# EAGLE library part MSP430FG4618 (library texas)
MIXED SIGNAL MICROCONTROLLER Auto generated by make-symbol-device-package-bsdl.ulp Rev. 19 Source: http://focus.ti.com/docs/prod/folders/print/msp430fg4618.html
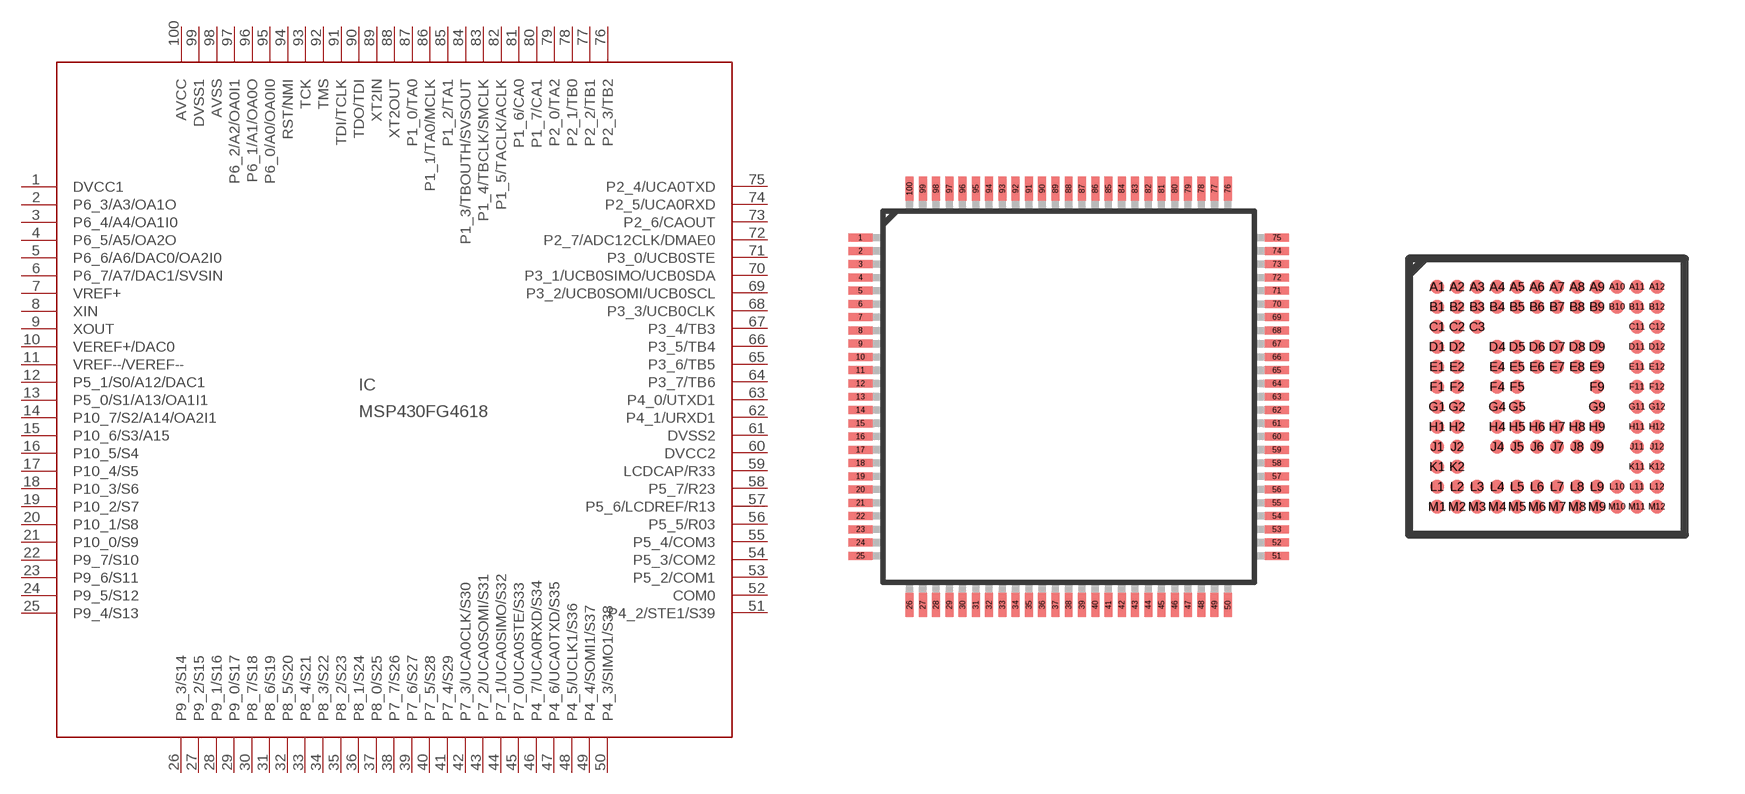
[diagram p38: symbol with the pads of TQFP100; footprints TQFP100, S-PBGA-N113]

Designator prefix IC

## MSP430FG4618PZ (MPN: MSP430FG4618IPZ; OC_FARNELL: 1470488; OC_NEWARK: 22M1151)  [TQFP100]
1  DVCC1  pwr
2  P6_3/A3/OA1O
3  P6_4/A4/OA1I0
4  P6_5/A5/OA2O
5  P6_6/A6/DAC0/OA2I0
6  P6_7/A7/DAC1/SVSIN
7  VREF+  out
8  XIN  in
9  XOUT  out
10  VEREF+/DAC0
11  VREF--/VEREF--  in
12  P5_1/S0/A12/DAC1
13  P5_0/S1/A13/OA1I1
14  P10_7/S2/A14/OA2I1
15  P10_6/S3/A15
16  P10_5/S4
17  P10_4/S5
18  P10_3/S6
19  P10_2/S7
20  P10_1/S8
21  P10_0/S9
22  P9_7/S10
23  P9_6/S11
24  P9_5/S12
25  P9_4/S13
26  P9_3/S14
27  P9_2/S15
28  P9_1/S16
29  P9_0/S17
30  P8_7/S18
31  P8_6/S19
32  P8_5/S20
33  P8_4/S21
34  P8_3/S22
35  P8_2/S23
36  P8_1/S24
37  P8_0/S25
38  P7_7/S26
39  P7_6/S27
40  P7_5/S28
41  P7_4/S29
42  P7_3/UCA0CLK/S30
43  P7_2/UCA0SOMI/S31
44  P7_1/UCA0SIMO/S32
45  P7_0/UCA0STE/S33
46  P4_7/UCA0RXD/S34
47  P4_6/UCA0TXD/S35
48  P4_5/UCLK1/S36
49  P4_4/SOMI1/S37
50  P4_3/SIMO1/S38
51  P4_2/STE1/S39
52  COM0  out
53  P5_2/COM1
54  P5_3/COM2
55  P5_4/COM3
56  P5_5/R03
57  P5_6/LCDREF/R13
58  P5_7/R23
59  LCDCAP/R33  in
60  DVCC2  pwr
61  DVSS2  pwr
62  P4_1/URXD1
63  P4_0/UTXD1
64  P3_7/TB6
65  P3_6/TB5
66  P3_5/TB4
67  P3_4/TB3
68  P3_3/UCB0CLK
69  P3_2/UCB0SOMI/UCB0SCL
70  P3_1/UCB0SIMO/UCB0SDA
71  P3_0/UCB0STE
72  P2_7/ADC12CLK/DMAE0
73  P2_6/CAOUT
74  P2_5/UCA0RXD
75  P2_4/UCA0TXD
76  P2_3/TB2
77  P2_2/TB1
78  P2_1/TB0
79  P2_0/TA2
80  P1_7/CA1
81  P1_6/CA0
82  P1_5/TACLK/ACLK
83  P1_4/TBCLK/SMCLK
84  P1_3/TBOUTH/SVSOUT
85  P1_2/TA1
86  P1_1/TA0/MCLK
87  P1_0/TA0
88  XT2OUT  out
89  XT2IN  in
90  TDO/TDI
91  TDI/TCLK  in
92  TMS  in
93  TCK  in
94  RST/NMI  in
95  P6_0/A0/OA0I0
96  P6_1/A1/OA0O
97  P6_2/A2/OA0I1
98  AVSS  pwr
99  DVSS1  pwr
100  AVCC  pwr

## MSP430FG4618ZQW (MPN: MSP430FG4618IZQW; OC_FARNELL: unknown; OC_NEWARK: 61M7852)  [S-PBGA-N113]
A1  DVCC1  pwr
A2  AVCC  pwr
A3  AVSS  pwr
A4  P6_0/A0/OA0I0
A5  TCK  in
A6  TDO/TDI
A7  P1_0/TA0
A8  P1_3/TBOUTH/SVSOUT
A9  P1_6/CA0
A10  P2_0/TA2
A11  P2_3/TB2
B1  P6_3/A3/OA1O
B2  P6_4/A4/OA1I0
B3  DVSS1  pwr
B4  P6_2/A2/OA0I1
B5  RST/NMI  in
B6  XT2IN  in
B7  XT2OUT  out
B8  P1_4/TBCLK/SMCLK
B9  P1_5/TACLK/ACLK
B10  P1_7/CA1
B12  P2_4/UCA0TXD
C1  P6_6/A6/DAC0/OA2I0
C2  P6_5/A5/OA2O
C3  P6_7/A7/DAC1/SVSIN
C11  P2_5/UCA0RXD
C12  P2_6/CAOUT
D1  XIN  in
D2  VREF+  out
D5  P6_1/A1/OA0O
D6  TDI/TCLK  in
D7  P1_2/TA1
D8  P2_1/TB0
D11  P3_0/UCB0STE
D12  P3_1/UCB0SIMO/UCB0SDA
E1  XOUT  out
E2  VEREF+/DAC0
E4  VREF--/VEREF--  in
E5  P10_7/S2/A14/OA2I1
E6  TMS  in
E7  P1_1/TA0/MCLK
E8  P2_2/TB1
E9  P2_7/ADC12CLK/DMAE0
E11  P3_3/UCB0CLK
E12  P3_4/TB3
F1  P5_1/S0/A12/DAC1
F2  P5_0/S1/A13/OA1I1
F4  P10_4/S5
F5  P10_1/S8
F9  P3_2/UCB0SOMI/UCB0SCL
F11  P3_6/TB5
F12  P3_7/TB6
G1  P10_6/S3/A15
G2  P10_5/S4
G4  P9_6/S11
G5  P8_4/S21
G9  P3_5/TB4
G11  P4_1/URXD1
G12  DVSS2  pwr
H1  P10_3/S6
H2  P10_2/S7
H4  P8_7/S18
H5  P8_1/S24
H6  P7_3/UCA0CLK/S30
H7  P4_4/SOMI1/S37
H9  P4_0/UTXD1
H11  LCDCAP/R33  in
H12  DVCC2  pwr
J1  P10_0/S9
J2  P9_7/S10
J5  P8_0/S25
J6  P7_5/S28
J7  P4_7/UCA0RXD/S34
J8  P5_3/COM2
J11  P5_7/R23
J12  P5_6/LCDREF/R13
K1  P9_5/S12
K2  P9_2/S15
K11  P5_5/R03
K12  P5_4/COM3
L1  P9_4/S13
L3  P9_1/S16
L4  P8_6/S19
L5  P8_3/S22
L6  P7_6/S27
L7  P7_2/UCA0SOMI/S31
L8  P7_0/UCA0STE/S33
L9  P4_5/UCLK1/S36
L10  COM0  out
L12  P5_2/COM1
M2  P9_3/S14
M3  P9_0/S17
M4  P8_5/S20
M5  P8_2/S23
M6  P7_7/S26
M7  P7_4/S29
M8  P7_1/UCA0SIMO/S32
M9  P4_6/UCA0TXD/S35
M10  P4_3/SIMO1/S38
M11  P4_2/STE1/S39

## Footprint TQFP100 (pad centres in mm)
PLASTIC 100-PIN TQFP (PZ) Auto generated by make-symbol-device-package-bsdl.ulp Rev. 19 Source: http://focus.ti.com/docs/prod/folders/print/msp430fg4618.html
smd 0.9 x 0.3: 1 -7.85,6; 2 -7.85,5.5; 3 -7.85,5; 4 -7.85,4.5; 5 -7.85,4; 6 -7.85,3.5; 7 -7.85,3; 8 -7.85,2.5; 9 -7.85,2; 10 -7.85,1.5; 11 -7.85,1; 12 -7.85,0.5; 13 -7.85,0; 14 -7.85,-0.5; 15 -7.85,-1; 16 -7.85,-1.5; 17 -7.85,-2; 18 -7.85,-2.5; 19 -7.85,-3; 20 -7.85,-3.5; 21 -7.85,-4; 22 -7.85,-4.5; 23 -7.85,-5; 24 -7.85,-5.5; 25 -7.85,-6; 51 7.85,-6; 52 7.85,-5.5; 53 7.85,-5; 54 7.85,-4.5; 55 7.85,-4; 56 7.85,-3.5; 57 7.85,-3; 58 7.85,-2.5; 59 7.85,-2; 60 7.85,-1.5; 61 7.85,-1; 62 7.85,-0.5; 63 7.85,0; 64 7.85,0.5; 65 7.85,1; 66 7.85,1.5; 67 7.85,2; 68 7.85,2.5; 69 7.85,3; 70 7.85,3.5; 71 7.85,4; 72 7.85,4.5; 73 7.85,5; 74 7.85,5.5; 75 7.85,6
smd 0.3 x 0.9: 26 -6,-7.85; 27 -5.5,-7.85; 28 -5,-7.85; 29 -4.5,-7.85; 30 -4,-7.85; 31 -3.5,-7.85; 32 -3,-7.85; 33 -2.5,-7.85; 34 -2,-7.85; 35 -1.5,-7.85; 36 -1,-7.85; 37 -0.5,-7.85; 38 0,-7.85; 39 0.5,-7.85; 40 1,-7.85; 41 1.5,-7.85; 42 2,-7.85; 43 2.5,-7.85; 44 3,-7.85; 45 3.5,-7.85; 46 4,-7.85; 47 4.5,-7.85; 48 5,-7.85; 49 5.5,-7.85; 50 6,-7.85; 76 6,7.85; 77 5.5,7.85; 78 5,7.85; 79 4.5,7.85; 80 4,7.85; 81 3.5,7.85; 82 3,7.85; 83 2.5,7.85; 84 2,7.85; 85 1.5,7.85; 86 1,7.85; 87 0.5,7.85; 88 0,7.85; 89 -0.5,7.85; 90 -1,7.85; 91 -1.5,7.85; 92 -2,7.85; 93 -2.5,7.85; 94 -3,7.85; 95 -3.5,7.85; 96 -4,7.85; 97 -4.5,7.85; 98 -5,7.85; 99 -5.5,7.85; 100 -6,7.85

## Footprint S-PBGA-N113 (pad centres in mm)
PLASTIC BGA 113-BALL (ZQW) Auto generated by make-symbol-device-package-bsdl.ulp Rev. 19 Source: http://focus.ti.com/docs/prod/folders/print/msp430fg4618.html
smd 0.35 x 0.35: A1 -2.75,2.75; A2 -2.25,2.75; A3 -1.75,2.75; A4 -1.25,2.75; A5 -0.75,2.75; A6 -0.25,2.75; A7 0.25,2.75; A8 0.75,2.75; A9 1.25,2.75; A10 1.75,2.75; A11 2.25,2.75; A12 2.75,2.75; B1 -2.75,2.25; B2 -2.25,2.25; B3 -1.75,2.25; B4 -1.25,2.25; B5 -0.75,2.25; B6 -0.25,2.25; B7 0.25,2.25; B8 0.75,2.25; B9 1.25,2.25; B10 1.75,2.25; B11 2.25,2.25; B12 2.75,2.25; C1 -2.75,1.75; C2 -2.25,1.75; C3 -1.75,1.75; C11 2.25,1.75; C12 2.75,1.75; D1 -2.75,1.25; D2 -2.25,1.25; D4 -1.25,1.25; D5 -0.75,1.25; D6 -0.25,1.25; D7 0.25,1.25; D8 0.75,1.25; D9 1.25,1.25; D11 2.25,1.25; D12 2.75,1.25; E1 -2.75,0.75; E2 -2.25,0.75; E4 -1.25,0.75; E5 -0.75,0.75; E6 -0.25,0.75; E7 0.25,0.75; E8 0.75,0.75; E9 1.25,0.75; E11 2.25,0.75; E12 2.75,0.75; F1 -2.75,0.25; F2 -2.25,0.25; F4 -1.25,0.25; F5 -0.75,0.25; F9 1.25,0.25; F11 2.25,0.25; F12 2.75,0.25; G1 -2.75,-0.25; G2 -2.25,-0.25; G4 -1.25,-0.25; G5 -0.75,-0.25; G9 1.25,-0.25; G11 2.25,-0.25; G12 2.75,-0.25; H1 -2.75,-0.75; H2 -2.25,-0.75; H4 -1.25,-0.75; H5 -0.75,-0.75; H6 -0.25,-0.75; H7 0.25,-0.75; H8 0.75,-0.75; H9 1.25,-0.75; H11 2.25,-0.75; H12 2.75,-0.75; J1 -2.75,-1.25; J2 -2.25,-1.25; J4 -1.25,-1.25; J5 -0.75,-1.25; J6 -0.25,-1.25; J7 0.25,-1.25; J8 0.75,-1.25; J9 1.25,-1.25; J11 2.25,-1.25; J12 2.75,-1.25; K1 -2.75,-1.75; K2 -2.25,-1.75; K11 2.25,-1.75; K12 2.75,-1.75; L1 -2.75,-2.25; L2 -2.25,-2.25; L3 -1.75,-2.25; L4 -1.25,-2.25; L5 -0.75,-2.25; L6 -0.25,-2.25; L7 0.25,-2.25; L8 0.75,-2.25; L9 1.25,-2.25; L10 1.75,-2.25; L11 2.25,-2.25; L12 2.75,-2.25; M1 -2.75,-2.75; M2 -2.25,-2.75; M3 -1.75,-2.75; M4 -1.25,-2.75; M5 -0.75,-2.75; M6 -0.25,-2.75; M7 0.25,-2.75; M8 0.75,-2.75; M9 1.25,-2.75; M10 1.75,-2.75; M11 2.25,-2.75; M12 2.75,-2.75